# Altium integrated library Antenna.IntLib: 4 symbols
Pins are listed as number, name and electrical type; pins without a type are passive.

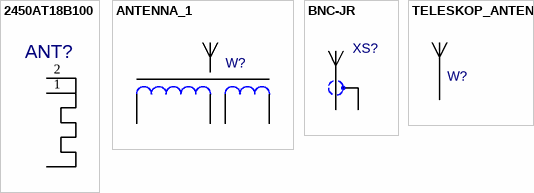
[diagram p0: symbols 2450AT18B100 to TELESKOP_ANTENNA]

## 2450AT18B100
designator ANT?  (value not drawn)
Value: *
footprint 2450AT18B100
pins: 1, 2

## ANTENNA_1
designator W?  (value not drawn)
Author: pcbdesigner.ru; Value: *
footprint ANTENNA_1
pins: 1, 2, 3, 4, 5 hidden, 6 hidden

## BNC-JR
designator XS?  (value not drawn)
Author: pcbdesigner.ru; Value: *
footprint BNC-JR
pins: 1, 2, 3 hidden, 4 hidden

## TELESKOP_ANTENNA
designator W?  (value not drawn)
Author: pcbdesigner.ru; Value: *
footprint TELESKOP_ANTENNA_PRK
footprint TELESKOP_ANTENNA_Primary
pins: 1